# Altium schematic symbol library conectors.SchLib: 2 symbols
Pins are listed as number, name and electrical type; pins without a type are passive.

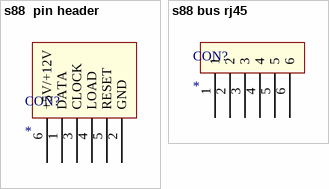
[diagram p0: symbols s88  pin header to s88 bus rj45]

## s88  pin header
designator CON?
s88  pin header
footprint s88  pin header
pins: 1 DATA, 2 GND, 3 CLOCK, 4 LOAD, 5 RESET, 6 +5V/+12V

## s88 bus rj45
designator CON?
s88 bus rj45
pins: 1, 2, 3, 4, 5, 6